# EAGLE library part TDA7053 (library My Library)
AUDIO AMPLIFIER
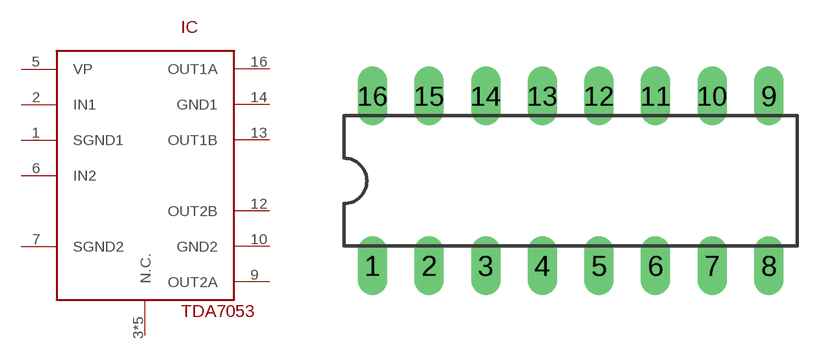
[diagram p7: symbol with the pads of DIL16; footprint DIL16]

Designator prefix IC

## TDA7053  [DIL16]
1  SGND1  pwr
2  IN1  in
3  N.C.  nc
4  N.C.  nc
5  VP
6  IN2  in
7  SGND2  pwr
8  N.C.  nc
9  OUT2A  out
10  GND2  pwr
11  N.C.  nc
12  OUT2B  out
13  OUT1B  out
14  GND1  pwr
15  N.C.  nc
16  OUT1A  out

## Footprint DIL16 (pad centres in mm)
Dual In Line Package
drill 0.813 long: 1 -8.89,-3.81; 2 -6.35,-3.81; 3 -3.81,-3.81; 4 -1.27,-3.81; 5 1.27,-3.81; 6 3.81,-3.81; 7 6.35,-3.81; 8 8.89,-3.81; 9 8.89,3.81; 10 6.35,3.81; 11 3.81,3.81; 12 1.27,3.81; 13 -1.27,3.81; 14 -3.81,3.81; 15 -6.35,3.81; 16 -8.89,3.81